# Altium integrated library TringBoredPlane.IntLib: 16 symbols
Pins are listed as number, name and electrical type; pins without a type are passive.

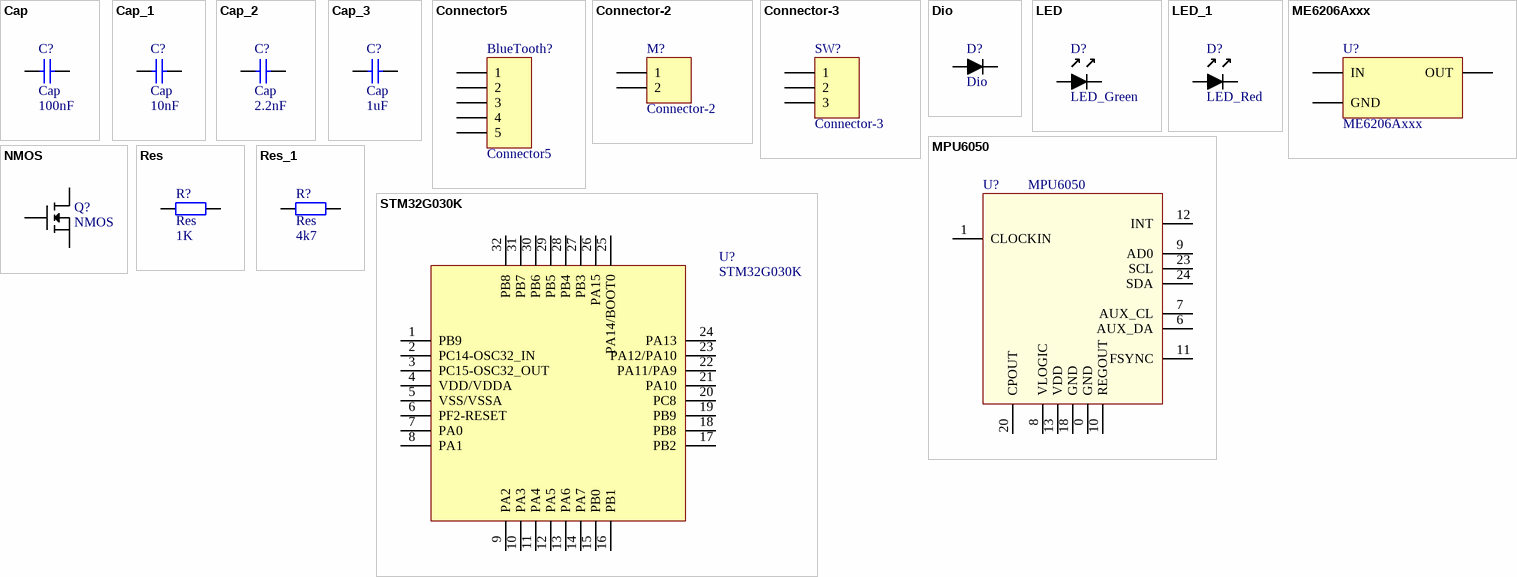
[diagram p0: symbols Cap to STM32G030K]

## Cap
designator C?  value 100nF
Capacitor; Published: 8-Jun-2000; LatestRevisionDate: 17-Jul-2002; LatestRevisionNote: Re-released for DXP Platform.; PackageReference: RAD-0.3; Publisher: Altium Limited; PackageDescription: Radial Cap, Thru-Hole; 2 Leads; 0.3 in Pin Spacing
simulation model CAP (Capacitor)
signal-integrity model Cap
footprint 0402l (Chip Capacitor, 2-Leads, Body 1.00x0.50mm, IPC High Density)
footprint 1206l (Chip Inductor, 2-Leads, Body 3.20x1.60mm, IPC High Density)
footprint 1206m (Chip Capacitor, 2-Leads, Body 3.20x1.60mm, IPC Low Density)
pins: 1, 2

## Cap_1
designator C?, comment Cap  value 10nF
Capacitor; Published: 8-Jun-2000; LatestRevisionDate: 17-Jul-2002; LatestRevisionNote: Re-released for DXP Platform.; PackageReference: RAD-0.3; Publisher: Altium Limited; PackageDescription: Radial Cap, Thru-Hole; 2 Leads; 0.3 in Pin Spacing
simulation model CAP (Capacitor)
signal-integrity model Cap
footprint 0402l (Chip Capacitor, 2-Leads, Body 1.00x0.50mm, IPC High Density)
footprint 1206l (Chip Inductor, 2-Leads, Body 3.20x1.60mm, IPC High Density)
footprint 1206m (Chip Capacitor, 2-Leads, Body 3.20x1.60mm, IPC Low Density)
pins: 1, 2

## Cap_2
designator C?, comment Cap  value 2.2nF
Capacitor; Published: 8-Jun-2000; LatestRevisionDate: 17-Jul-2002; LatestRevisionNote: Re-released for DXP Platform.; PackageReference: RAD-0.3; Publisher: Altium Limited; PackageDescription: Radial Cap, Thru-Hole; 2 Leads; 0.3 in Pin Spacing
simulation model CAP (Capacitor)
signal-integrity model Cap
footprint 0402l (Chip Capacitor, 2-Leads, Body 1.00x0.50mm, IPC High Density)
footprint 1206l (Chip Inductor, 2-Leads, Body 3.20x1.60mm, IPC High Density)
footprint 1206m (Chip Capacitor, 2-Leads, Body 3.20x1.60mm, IPC Low Density)
pins: 1, 2

## Cap_3
designator C?, comment Cap  value 1uF
Capacitor; Published: 8-Jun-2000; LatestRevisionDate: 17-Jul-2002; LatestRevisionNote: Re-released for DXP Platform.; PackageReference: RAD-0.3; Publisher: Altium Limited; PackageDescription: Radial Cap, Thru-Hole; 2 Leads; 0.3 in Pin Spacing
simulation model CAP (Capacitor)
signal-integrity model Cap
footprint 0402l (Chip Capacitor, 2-Leads, Body 1.00x0.50mm, IPC High Density)
footprint 1206l (Chip Inductor, 2-Leads, Body 3.20x1.60mm, IPC High Density)
footprint 1206m (Chip Capacitor, 2-Leads, Body 3.20x1.60mm, IPC Low Density)
pins: 1, 2

## Connector5
designator BlueTooth?
footprint 2.54th5
pins: 1 (power), 2 (power), 3 (power), 4 (power), 5 (power)

## Connector-2
designator M?
footprint XH2.54SMD-2
footprint XH2.54TH-2
pins: 1, 2

## Connector-3
designator SW?
footprint XH2.54SMD-3
footprint XH2.54TH-3
footprint MH1.25SMD-3
pins: 1, 2, 3

## Dio
designator D?
footprint DO-214ACM (Molded Diode, 2-Leads, Body 4.40x2.70mm, IPC Medium Density)
pins: A, K

## LED
designator D?, comment LED_Green
footprint D0603M (Chip Inductor, 2-Leads, Body 2.54x0.80mm, IPC High Density)
footprint D0805M (Chip Capacitor, 2-Leads, Body 2.00x1.20mm, IPC Low Density)
pins: A, K

## LED_1
designator D?, comment LED_Red
footprint D0603M (Chip Inductor, 2-Leads, Body 2.54x0.80mm, IPC High Density)
footprint D0805M (Chip Capacitor, 2-Leads, Body 2.00x1.20mm, IPC Low Density)
pins: A, K

## ME6206Axxx
designator U?
footprint sot89m (SOT89, 3-Leads, Body 4.50x2.50mm, Pitch 1.50mm, Lead Span 4.1mm, IPC Low Density); pin to pad GND>1 IN>2 OUT>3
pins: GND, IN, OUT

## MPU6050
designator U?
footprint QFN4*4-24M (PQFN, 24-Leads, Body 4.00x4.00mm, Pitch 0.50mm, Thermal Pad 2.60x2.70mm, IPC Low Density)
pins: 0 GND, 1 CLOCKIN, 6 AUX_DA, 7 AUX_CL, 8 VLOGIC, 9 AD0, 10 REGOUT, 11 FSYNC, 12 INT, 13 VDD, 18 GND, 20 CPOUT, 23 SCL, 24 SDA

## NMOS
designator Q?
footprint SuperSO8M (PQFN, 10-Leads, Body 6.15x5.32mm, Pitch 1.27mm, Thermal Pad 3.60x3.60mm, IPC Low Density)
footprint SOT23-3M (SOT23, 3-Leads, Body 2.90x2.45mm, Pitch 0.95mm, IPC Low Density); pin to pad D>3 G>1 S>2
pins: D, G, S

## Res
designator R?  value 1K
Resistor; Published: 8-Jun-2000; LatestRevisionDate: 17-Jul-2002; LatestRevisionNote: Re-released for DXP Platform.; PackageReference: AXIAL-0.4; Publisher: Altium Limited; PackageDescription: Axial Device, Thru-Hole; 2 Leads; 0.4 in Pin Spacing
simulation model RESISTOR (Resistor)
signal-integrity model Res
footprint 0402L (Chip Capacitor, 2-Leads, Body 1.00x0.50mm, IPC High Density)
footprint 2512L (Chip Resistor, 2-Leads, Body 6.35x3.20mm, IPC High Density)
footprint 1206M (Chip Capacitor, 2-Leads, Body 3.20x1.60mm, IPC Low Density)
pins: 1, 2

## Res_1
designator R?, comment Res  value 4k7
Resistor; Published: 8-Jun-2000; LatestRevisionDate: 17-Jul-2002; LatestRevisionNote: Re-released for DXP Platform.; PackageReference: AXIAL-0.4; Publisher: Altium Limited; PackageDescription: Axial Device, Thru-Hole; 2 Leads; 0.4 in Pin Spacing
simulation model RESISTOR (Resistor)
signal-integrity model Res
footprint 0402L (Chip Capacitor, 2-Leads, Body 1.00x0.50mm, IPC High Density)
footprint 2512L (Chip Resistor, 2-Leads, Body 6.35x3.20mm, IPC High Density)
footprint 1206M (Chip Capacitor, 2-Leads, Body 3.20x1.60mm, IPC Low Density)
footprint LC-0805_R
pins: 1, 2

## STM32G030K
designator U?
footprint LQFP32M (TQFP, 32-Leads, Body 7.00x7.00mm, Pitch 0.80mm, IPC Low Density)
pins: 1 PB9, 2 PC14-OSC32_IN, 3 PC15-OSC32_OUT, 4 VDD/VDDA, 5 VSS/VSSA, 6 PF2-RESET, 7 PA0, 8 PA1, 9 PA2, 10 PA3, 11 PA4, 12 PA5, 13 PA6, 14 PA7, 15 PB0, 16 PB1, 17 PB2, 18 PB8, 19 PB9, 20 PC8, 21 PA10, 22 PA11/PA9, 23 PA12/PA10, 24 PA13, 25 PA14/BOOT0, 26 PA15, 27 PB3, 28 PB4, 29 PB5, 30 PB6, 31 PB7, 32 PB8